# Altium schematic symbol library CONN-STD-4P_2ROW _TH.SchLib: 1 symbol
Pins are listed as number, name and electrical type; pins without a type are passive.

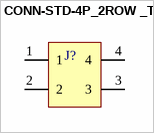
[diagram p0: symbol CONN-STD-4P_2ROW _TH]

## CONN-STD-4P_2ROW _TH
designator J?  (value not drawn)
pins: 1, 2, 3, 4